# EAGLE library part JACK (library SKAARHOJ)
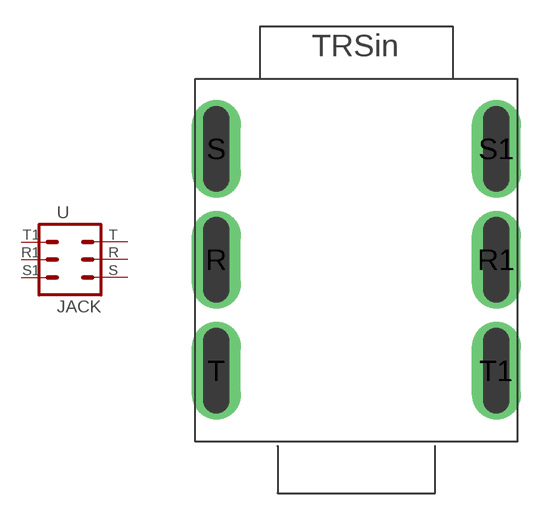
[diagram p85: symbol with the pads of JACKPT; footprint JACKPT]

Designator prefix -

## JACK  [JACKPT]
R  R  pas
R1  R1  pas
S  S  pas
S1  S1  pas
T  T  pwr
T1  T1  pwr

## Footprint JACKPT (pad centres in mm)
drill 1.5 pad 2.8 long: R -8,-10.338; R1 8,-10.338; S -8,-4; S1 8,-4; T -8,-16.688; T1 8,-16.688